# Altium footprint library PCB_lib_atmega_Board.PcbLib: 28 footprints (part 2 of 2)
Each footprint in its own frame and in the unit in brackets; x right, y up, seen from the top. Pads: shape width x height; smd on the part's side, far side on the other; paste and mask are expansions set on the pad; w line width, h text height; cw(c..) or ccw(c..) is an arc to the next point about the centre after c.
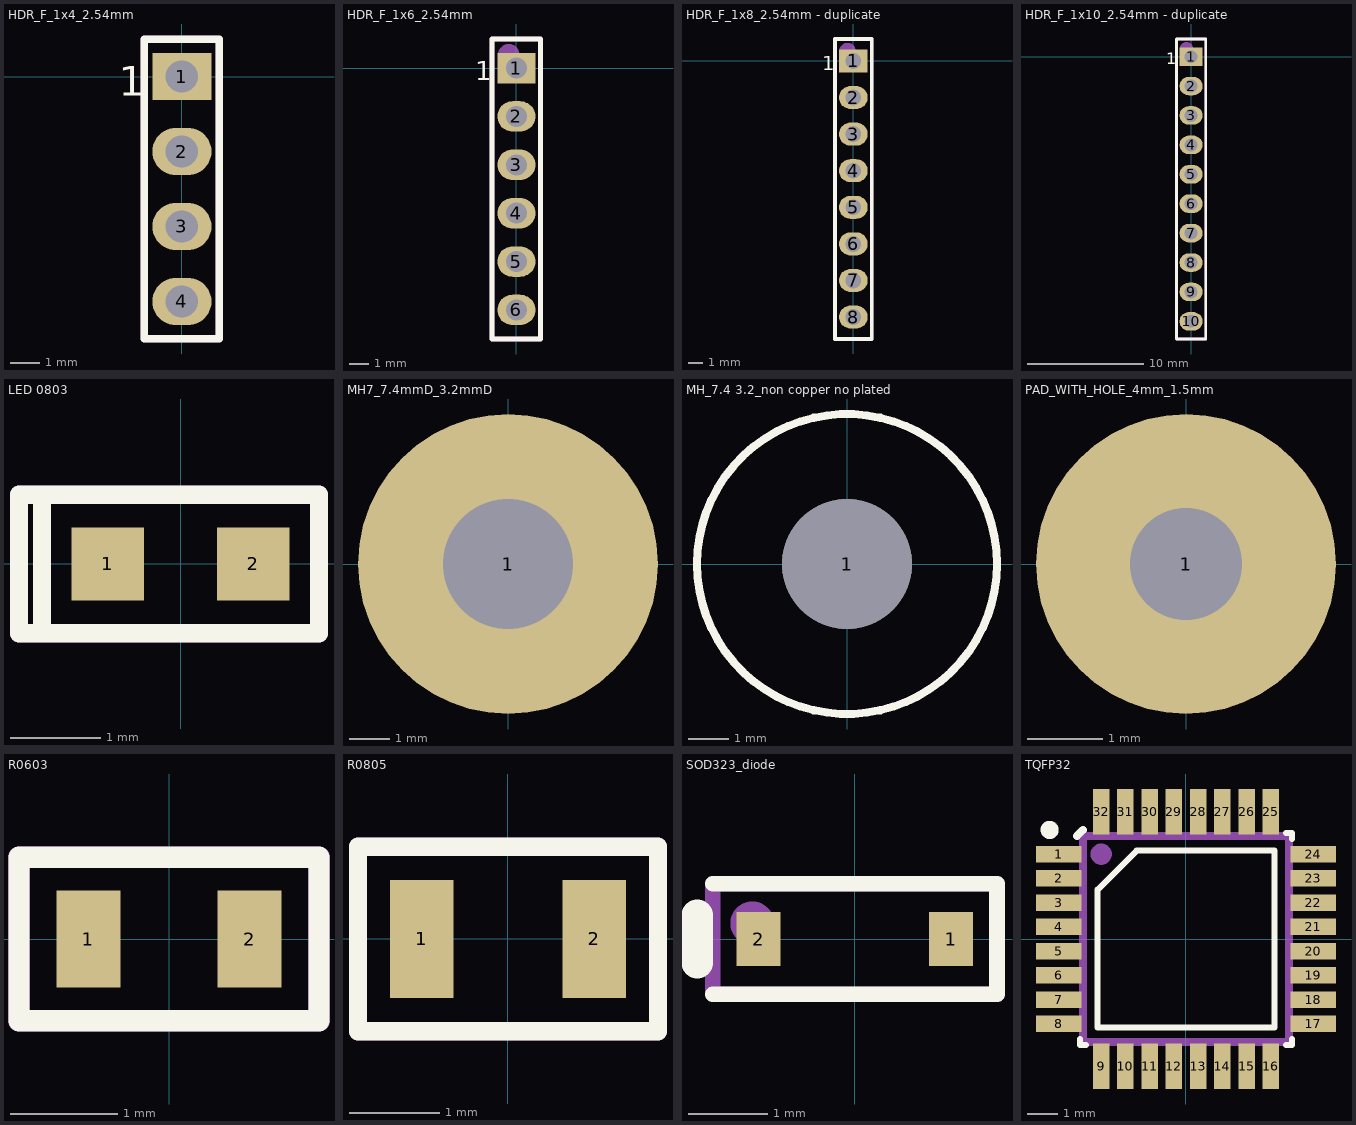
[diagram p1: the footprints below, top view; thin cyan lines are the x and y axes]

## HDR_F_1x4_2.54mm [mm]
pads (4):
  rect 2x1.6 hole 1.1: 1(0,0)
  oval 2x1.6 hole 1.1: 2(0,-2.54) 3(0,-5.08) 4(0,-7.62)
Top Overlay:
  lines w0.254: -1.27,-8.89 -1.27,1.27 1.27,1.27 1.27,-8.89 -1.27,-8.89
  text "1" at -2.146,-0.646 h1
Mechanical 29:
  circle w0.635: c0,0 r0.246
  lines w0.254: -1.27,-8.89 1.27,-8.89 1.27,1.27 -1.27,1.27 -1.27,-8.89
  text "'.Designator'" at 0.728,-8.687 h1.02
3D body "hdr 1x4 68001-x04.stp": height 8.39, standoff -3.04, extent -1.207,-8.89 1.207,1.27

## HDR_F_1x6_2.54mm [mm]
pads (6):
  rect 2x1.6 hole 1.1: 1(0,0)
  oval 2x1.6 hole 1.1: 2(0,-2.54) 3(0,-5.08) 4(0,-7.62) 5(0,-10.16) 6(0,-12.7)
Top Overlay:
  lines w0.254: -1.27,-14.224 1.27,-14.224 1.27,1.524 -1.27,1.524 -1.27,-14.224
  text "1" at -2.146,-0.646 h1
Mechanical 29:
  circle w0.635: c-0.4,0.7 r0.246
  lines w0.254: -1.27,-14.224 -1.27,1.524 1.27,1.524 1.27,-14.224 -1.27,-14.224
  text "'.Designator'" at 0.423,-12.954 h1.02
3D body "m20-7820646_asm.stp": height 8.51, standoff -2.99, extent -1.23,-14.17 1.27,1.47

## HDR_F_1x8_2.54mm - duplicate [mm]
pads (8):
  rect 2x1.6 hole 1.1: 1(0,0)
  oval 2x1.6 hole 1.1: 2(0,-2.54) 3(0,-5.08) 4(0,-7.62) 5(0,-10.16) 6(0,-12.7) 7(0,-15.24) 8(0,-17.78)
Top Overlay:
  lines w0.254: -1.27,-19.304 -1.27,1.524 1.27,1.524 1.27,-19.304 -1.27,-19.304
  text "1" at -2.146,-0.646 h1
Mechanical 29:
  circle w0.635: c-0.4,0.7 r0.246
  lines w0.254: -1.27,-19.304 1.27,-19.304 1.27,1.524 -1.27,1.524 -1.27,-19.304
  text "'.Designator'" at 0.423,-12.446 h1.02
3D body "m20-7820842_asm.stp": height 8.31, standoff -3.19, extent -1.25,-19.25 1.25,1.47

## HDR_F_1x10_2.54mm - duplicate [mm]
pads (10):
  rect 2x1.6 hole 1.1: 1(0,0)
  oval 2x1.6 hole 1.1: 2(0,-2.54) 3(0,-5.08) 4(0,-7.62) 5(0,-10.16) 6(0,-12.7) 7(0,-15.24) 8(0,-17.78) 9(0,-20.32) 10(0,-22.86)
Top Overlay:
  lines w0.254: -1.27,-24.384 -1.27,1.524 1.27,1.524 1.27,-24.384 -1.27,-24.384
  text "1" at -2.146,-0.646 h1
Mechanical 29:
  circle w0.635: c-0.4,0.7 r0.246
  lines w0.254: -1.27,-24.384 1.27,-24.384 1.27,1.524 -1.27,1.524 -1.27,-24.384
  text "'.Designator'" at 0.407,-18.246 h1.02
3D body "M20-7821046.stp": height 8.65, standoff -3.25, extent -1.25,-24.33 1.25,1.47

## LED 0803 [mm]
pads (2):
  rect 0.8x0.8 smd: 1(-0.8,0) 2(0.8,0)
Top Overlay:
  lines w0.2: -1.524,-0.762 -1.524,0.762 1.524,0.762 1.524,-0.762 -1.524,-0.762
  lines w0.203: -1.524,-0.762 -1.778,-0.762 -1.778,0.762 -1.524,0.762
Mechanical 29:
  lines w0.2: -1.524,-0.762 -1.524,0.762 1.524,0.762 1.524,-0.762 -1.524,-0.762
  lines w0.203: -1.524,-0.762 -1.778,-0.762 -1.778,0.762 -1.524,0.762
  text "'.Designator'" at -1.143,-0.212 h0.51
3D body "SMD 0603 super red.step": height 0.65, standoff 0, extent -0.85,-0.4 0.85,0.4
3D body: height 0.66, standoff 0.5, extent -0.2,-0.2 0.2,0.2

## MH7_7.4mmD_3.2mmD [mm]
pads (1):
  round 7.4 hole 3.2: 1(0,0)

## MH_7.4 3.2_non copper no plated [mm]
pads (1):
  round 3.2 hole 3.2 unplated: 1(0,0)
Top Overlay:
  circle w0.2: c0,0 r3.7

## PAD_WITH_HOLE_4mm_1.5mm [mm]
pads (1):
  round 4 hole 1.5: 1(0,0)

## R0603 [mm]
pads (2):
  rect 0.6x0.9 smd: 1(-0.75,0) 2(0.75,0)
Top Overlay:
  lines w0.2: -1.397,-0.762 -1.397,0.762 1.397,0.762 1.397,-0.762 -1.397,-0.762
Mechanical 29:
  lines w0.203: -1.397,-0.762 -1.397,0.762 1.397,0.762 1.397,-0.762 -1.397,-0.762
  text "'.Designator'" at -1.27,-0.212 h0.51
3D body "R0603.step": height 0.81, standoff 0.01, extent -0.775,-0.415 0.825,0.425

## R0805 [mm]
pads (2):
  rect 0.7x1.3 smd: 1(-0.95,0) 2(0.95,0)
Top Overlay:
  lines w0.2: -1.651,-1.016 -1.651,1.016 1.651,1.016 1.651,-1.016 -1.651,-1.016
Mechanical 29:
  lines w0.2: -1.651,-1.016 -1.651,1.016 1.651,1.016 1.651,-1.016 -1.651,-1.016
  text "'.Designator'" at -1.1,-0.167 h0.4
3D body "User Library-Chip Resistor2.step": height 0.61, standoff 0.01, extent -1,-0.6 1,0.6

## SOD323_diode [mil]
pads (2):
  rect 22x27 smd: 1(48,0) 2(-48,0)
Top Overlay:
  lines w7.87: 70.87,-27.56 70.87,27.56 ; 70.87,-27.56 -70.87,-27.56 70.87,-27.56 ; 70.87,-27.56 70.87,27.56 ; 70.87,27.56 -70.87,27.56 70.87,27.56
  lines w15.75: -78.74,-11.81 -78.74,11.81 -78.74,-11.81
Mechanical 29:
  circle w11.81: c-51.18,7.87 r5
  lines w7.87: -70.87,-27.56 -70.87,27.56 70.87,27.56 70.87,-27.56 -70.87,-27.56
  text "'.Designator'" at -27.56,-6.56 h15.75
3D body "schottky-SOD323.step": height 39.48, standoff 0.5, extent -48,-24.61 50.43,24.61

## TQFP32 [mm]
pads (32):
  rect 1.5x0.55 smd mask+0.06: 1(-4.2,2.8) 2(-4.2,2) 3(-4.2,1.2) 4(-4.2,0.4) 5(-4.2,-0.4) 6(-4.2,-1.2) 7(-4.2,-2) 8(-4.2,-2.8) 17(4.2,-2.8) 18(4.2,-2) 19(4.2,-1.2) 20(4.2,-0.4) 21(4.2,0.4) 22(4.2,1.2) 23(4.2,2) 24(4.2,2.8)
  rect 0.55x1.5 smd mask+0.06: 9(-2.8,-4.2) 10(-2,-4.2) 11(-1.2,-4.2) 12(-0.4,-4.2) 13(0.4,-4.2) 14(1.2,-4.2) 15(2,-4.2) 16(2.8,-4.2) 25(2.8,4.2) 26(2,4.2) 27(1.2,4.2) 28(0.4,4.2) 29(-0.4,4.2) 30(-1.2,4.2) 31(-2,4.2) 32(-2.8,4.2)
Top Overlay:
  circle w0.4: c-4.5,3.6 r0.1
  lines w0.2: -3.5,-3.3 -3.5,-3.5 -3.3,-3.5 ; 3.3,-3.5 3.5,-3.5 3.5,-3.3 ; 3.3,3.5 3.5,3.5 3.5,3.3 ; -2.915,-2.915 -2.915,1.63 -1.63,2.915 2.915,2.915 2.915,-2.915 -2.915,-2.915
  lines w0.254: -3.6,3.4 -3.4,3.6
Mechanical 29:
  circle w0.5: c-2.8,2.8 r0.1
  lines w0.254: -3.4,-3.4 -3.4,3.4 3.4,3.4 3.4,-3.4 -3.4,-3.4
  text "'.Designator'" at -2.5,-0.467 h1
3D body "User Library-tqfp32.step": height 1.2, standoff 0, extent -4.6,-4.599 4.599,4.599